# Altium footprint library Leadless Chip Carrier - Square.PcbLib: 18 footprints (part 1 of 2)
Each footprint in its own frame and in the unit in brackets; x right, y up, seen from the top. Pads: shape width x height; smd on the part's side, far side on the other; paste and mask are expansions set on the pad; w line width, h text height; cw(c..) or ccw(c..) is an arc to the next point about the centre after c.
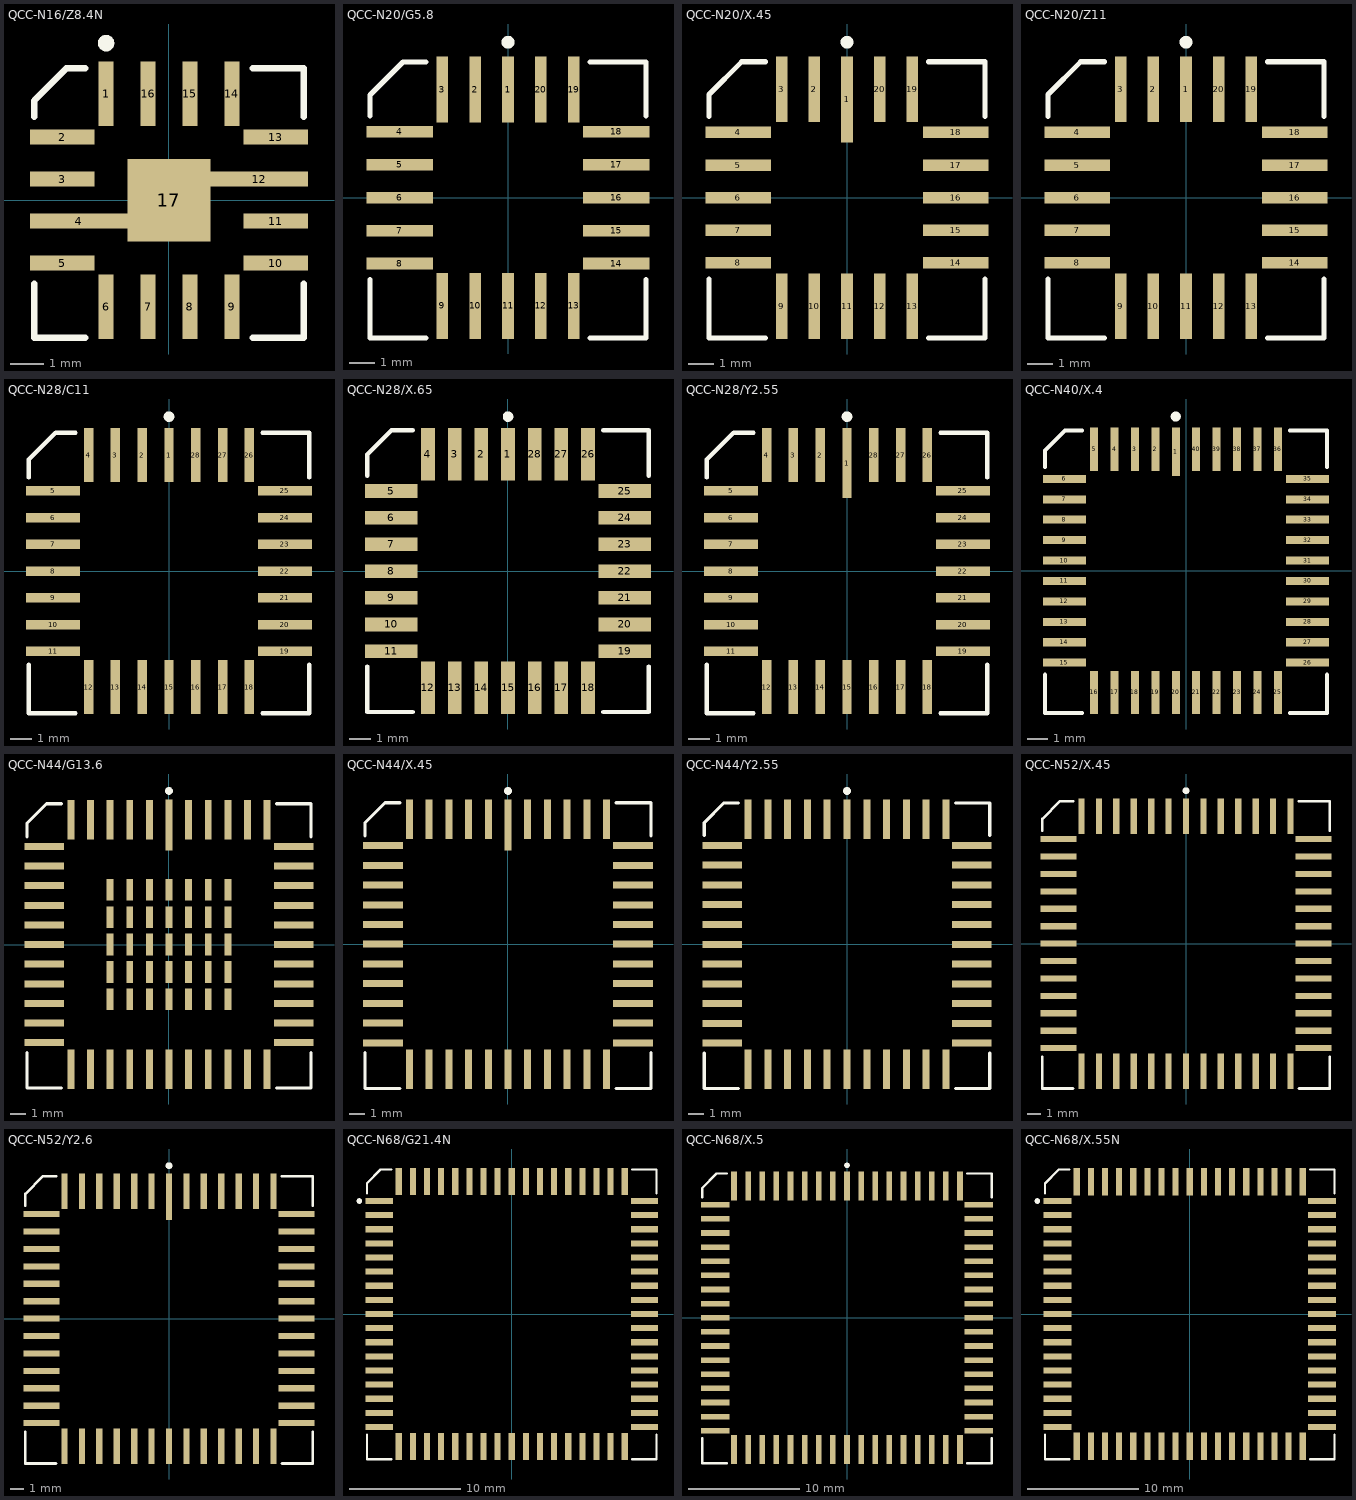
[diagram p0: the footprints below, top view; thin cyan lines are the x and y axes]

## QCC-N16/Z8.4N [mm] "Leadless Chip Carrier; 16 Terminals; Body 6.4 x 6.4 mm"
height 1.91
pads (17):
  rect 0.45x1.95 smd: 1(-1.905,3.225) 6(-1.905,-3.225) 7(-0.635,-3.225) 8(0.635,-3.225) 9(1.905,-3.225) 14(1.905,3.225) 15(0.635,3.225) 16(-0.635,3.225)
  rect 1.95x0.45 smd: 2(-3.225,1.905) 3(-3.225,0.635) 5(-3.225,-1.905) 10(3.225,-1.905) 11(3.225,-0.635) 13(3.225,1.905)
  rect 2.949x0.45 smd: 4(-2.725,-0.635) 12(2.725,0.635)
  rect 2.5x2.5 smd: 17(0,0)
Top Overlay:
  circle w0.25: c-1.905,4.75 r0.125
  lines w0.2: -4.075,-2.53 -4.075,-4.163 -2.53,-4.163 ; -4.075,2.53 -4.075,3.013 -3.1,3.988 -2.53,3.988 ; 2.53,-4.163 4.075,-4.163 4.075,-2.53 ; 2.53,3.988 4.075,3.988 4.075,2.53

## QCC-N20/G5.8 [mm] "Leadless Chip Carrier; 20 Terminals; Body 8.9 x 8.9 mm"
height 2.54
pads (20):
  rect 0.45x2.55 smd: 1(0,4.175) 2(-1.27,4.175) 3(-2.54,4.175) 9(-2.54,-4.175) 10(-1.27,-4.175) 11(0,-4.175) 12(1.27,-4.175) 13(2.54,-4.175) 19(2.54,4.175) 20(1.27,4.175)
  rect 2.55x0.45 smd: 4(-4.175,2.54) 5(-4.175,1.27) 6(-4.175,0) 7(-4.175,-1.27) 8(-4.175,-2.54) 14(4.175,-2.54) 15(4.175,-1.27) 16(4.175,0) 17(4.175,1.27) 18(4.175,2.54)
Top Overlay:
  circle w0.25: c0,6 r0.125
  lines w0.2: -5.325,-3.165 -5.325,-5.413 -3.165,-5.413 ; -5.325,3.165 -5.325,3.962 -4.05,5.238 -3.165,5.238 ; 3.165,-5.413 5.325,-5.413 5.325,-3.165 ; 3.165,5.238 5.325,5.238 5.325,3.165

## QCC-N20/X.45 [mm] "Leadless Chip Carrier; 20 Terminals; Body 8.9 x 8.9 mm"
height 2.54
pads (20):
  rect 0.45x3.35 smd: 1(0,3.825)
  rect 0.45x2.55 smd: 2(-1.27,4.225) 3(-2.54,4.225) 9(-2.54,-4.225) 10(-1.27,-4.225) 11(0,-4.225) 12(1.27,-4.225) 13(2.54,-4.225) 19(2.54,4.225) 20(1.27,4.225)
  rect 2.55x0.45 smd: 4(-4.225,2.54) 5(-4.225,1.27) 6(-4.225,0) 7(-4.225,-1.27) 8(-4.225,-2.54) 14(4.225,-2.54) 15(4.225,-1.27) 16(4.225,0) 17(4.225,1.27) 18(4.225,2.54)
Top Overlay:
  circle w0.25: c0,6.05 r0.125
  lines w0.2: -5.375,-3.165 -5.375,-5.463 -3.165,-5.463 ; -5.375,3.165 -5.375,4.012 -4.1,5.288 -3.165,5.288 ; 3.165,-5.463 5.375,-5.463 5.375,-3.165 ; 3.165,5.288 5.375,5.288 5.375,3.165

## QCC-N20/Z11 [mm] "Leadless Chip Carrier; 20 Terminals; Body 8.9 x 8.9 mm"
height 2.03
pads (20):
  rect 0.45x2.55 smd: 1(0,4.225) 2(-1.27,4.225) 3(-2.54,4.225) 9(-2.54,-4.225) 10(-1.27,-4.225) 11(0,-4.225) 12(1.27,-4.225) 13(2.54,-4.225) 19(2.54,4.225) 20(1.27,4.225)
  rect 2.55x0.45 smd: 4(-4.225,2.54) 5(-4.225,1.27) 6(-4.225,0) 7(-4.225,-1.27) 8(-4.225,-2.54) 14(4.225,-2.54) 15(4.225,-1.27) 16(4.225,0) 17(4.225,1.27) 18(4.225,2.54)
Top Overlay:
  circle w0.25: c0,6.05 r0.125
  lines w0.2: -5.375,-3.165 -5.375,-5.463 -3.165,-5.463 ; -5.375,3.165 -5.375,4.012 -4.1,5.288 -3.165,5.288 ; 3.165,-5.463 5.375,-5.463 5.375,-3.165 ; 3.165,5.288 5.375,5.288 5.375,3.165

## QCC-N28/C11 [mm] "Leadless Chip Carrier; 28 Terminals; Body 11.4 x 11.4 mm"
height 1.99
pads (28):
  rect 0.45x2.55 smd: 1(0,5.5) 2(-1.27,5.5) 3(-2.54,5.5) 4(-3.81,5.5) 12(-3.81,-5.5) 13(-2.54,-5.5) 14(-1.27,-5.5) 15(0,-5.5) 16(1.27,-5.5) 17(2.54,-5.5) 18(3.81,-5.5) 26(3.81,5.5) 27(2.54,5.5) 28(1.27,5.5)
  rect 2.55x0.45 smd: 5(-5.5,3.81) 6(-5.5,2.54) 7(-5.5,1.27) 8(-5.5,0) 9(-5.5,-1.27) 10(-5.5,-2.54) 11(-5.5,-3.81) 19(5.5,-3.81) 20(5.5,-2.54) 21(5.5,-1.27) 22(5.5,0) 23(5.5,1.27) 24(5.5,2.54) 25(5.5,3.81)
Top Overlay:
  circle w0.25: c0,7.325 r0.125
  lines w0.2: -6.65,-4.435 -6.65,-6.737 -4.435,-6.737 ; -6.65,4.435 -6.65,5.288 -5.375,6.563 -4.435,6.562 ; 4.435,-6.737 6.65,-6.737 6.65,-4.435 ; 4.435,6.562 6.65,6.562 6.65,4.435

## QCC-N28/X.65 [mm] "Leadless Chip Carrier; 28 Terminals; Body 11.4 x 11.4 mm"
height 2.42
pads (28):
  rect 0.65x2.5 smd: 1(0,5.55) 2(-1.27,5.55) 3(-2.54,5.55) 4(-3.81,5.55) 12(-3.81,-5.55) 13(-2.54,-5.55) 14(-1.27,-5.55) 15(0,-5.55) 16(1.27,-5.55) 17(2.54,-5.55) 18(3.81,-5.55) 26(3.81,5.55) 27(2.54,5.55) 28(1.27,5.55)
  rect 2.5x0.65 smd: 5(-5.55,3.81) 6(-5.55,2.54) 7(-5.55,1.27) 8(-5.55,0) 9(-5.55,-1.27) 10(-5.55,-2.54) 11(-5.55,-3.81) 19(5.55,-3.81) 20(5.55,-2.54) 21(5.55,-1.27) 22(5.55,0) 23(5.55,1.27) 24(5.55,2.54) 25(5.55,3.81)
Top Overlay:
  circle w0.25: c0,7.35 r0.125
  lines w0.2: -6.7,-4.535 -6.7,-6.7 -4.535,-6.7 ; -6.7,4.535 -6.7,5.55 -5.55,6.7 ; -5.485,6.7 -4.535,6.7 ; 4.535,-6.7 6.7,-6.7 6.7,-4.535 ; 4.535,6.7 6.7,6.7 6.7,4.535

## QCC-N28/Y2.55 [mm] "Leadless Chip Carrier; 28 Terminals; Body 11.4 x 11.4 mm"
height 2.54
pads (28):
  rect 0.45x3.3 smd: 1(0,5.125)
  rect 0.45x2.55 smd: 2(-1.27,5.5) 3(-2.54,5.5) 4(-3.81,5.5) 12(-3.81,-5.5) 13(-2.54,-5.5) 14(-1.27,-5.5) 15(0,-5.5) 16(1.27,-5.5) 17(2.54,-5.5) 18(3.81,-5.5) 26(3.81,5.5) 27(2.54,5.5) 28(1.27,5.5)
  rect 2.55x0.45 smd: 5(-5.5,3.81) 6(-5.5,2.54) 7(-5.5,1.27) 8(-5.5,0) 9(-5.5,-1.27) 10(-5.5,-2.54) 11(-5.5,-3.81) 19(5.5,-3.81) 20(5.5,-2.54) 21(5.5,-1.27) 22(5.5,0) 23(5.5,1.27) 24(5.5,2.54) 25(5.5,3.81)
Top Overlay:
  circle w0.25: c0,7.325 r0.125
  lines w0.2: -6.65,-4.435 -6.65,-6.737 -4.435,-6.737 ; -6.65,4.435 -6.65,5.288 -5.375,6.563 -4.435,6.562 ; 4.435,-6.737 6.65,-6.737 6.65,-4.435 ; 4.435,6.562 6.65,6.562 6.65,4.435

## QCC-N40/X.4 [mm] "Leadless Chip Carrier; 40 Terminals; Body 12.3 x 12.3 mm; Pitch 1.016 mm"
height 2.08
pads (40):
  rect 0.4x2.4 smd: 1(-0.508,5.925)
  rect 0.4x2.15 smd: 2(-1.524,6.05) 3(-2.54,6.05) 4(-3.556,6.05) 5(-4.572,6.05) 16(-4.572,-6.05) 17(-3.556,-6.05) 18(-2.54,-6.05) 19(-1.524,-6.05) 20(-0.508,-6.05) 21(0.508,-6.05) 22(1.524,-6.05) 23(2.54,-6.05) 24(3.556,-6.05) 25(4.572,-6.05) 36(4.572,6.05) 37(3.556,6.05) 38(2.54,6.05) 39(1.524,6.05) 40(0.508,6.05)
  rect 2.15x0.4 smd: 6(-6.05,4.572) 7(-6.05,3.556) 8(-6.05,2.54) 9(-6.05,1.524) 10(-6.05,0.508) 11(-6.05,-0.508) 12(-6.05,-1.524) 13(-6.05,-2.54) 14(-6.05,-3.556) 15(-6.05,-4.572) 26(6.05,-4.572) 27(6.05,-3.556) 28(6.05,-2.54) 29(6.05,-1.524) 30(6.05,-0.508) 31(6.05,0.508) 32(6.05,1.524) 33(6.05,2.54) 34(6.05,3.556) 35(6.05,4.572)
Top Overlay:
  circle w0.25: c-0.51,7.675 r0.125
  lines w0.2: -7.025,-5.172 -7.025,-7.075 -5.172,-7.075 ; -7.025,5.172 -7.025,5.975 -6.025,6.975 -5.172,6.975 ; 5.172,-7.075 7.025,-7.075 7.025,-5.172 ; 5.172,6.975 7.025,6.975 7.025,5.172

## QCC-N44/G13.6 [mm] "Leadless Chip Carrier; 44 Terminals; Body 16.5 x 16.5 mm"
height 3.05
pads (79):
  rect 0.45x3.3 smd: 1(0,7.745)
  rect 0.45x2.55 smd: 2(-1.27,8.075) 3(-2.54,8.075) 4(-3.81,8.075) 5(-5.08,8.075) 6(-6.35,8.075) 18(-6.35,-8.075) 19(-5.08,-8.075) 20(-3.81,-8.075) 21(-2.54,-8.075) 22(-1.27,-8.075) 23(0,-8.075) 24(1.27,-8.075) 25(2.54,-8.075) 26(3.81,-8.075) 27(5.08,-8.075) 28(6.35,-8.075) 40(6.35,8.075) 41(5.08,8.075) 42(3.81,8.075) 43(2.54,8.075) 44(1.27,8.075)
  rect 2.55x0.45 smd: 7(-8.075,6.35) 8(-8.075,5.08) 9(-8.075,3.81) 10(-8.075,2.54) 11(-8.075,1.27) 12(-8.075,0) 13(-8.075,-1.27) 14(-8.075,-2.54) 15(-8.075,-3.81) 16(-8.075,-5.08) 17(-8.075,-6.35) 29(8.075,-6.35) 30(8.075,-5.08) 31(8.075,-3.81) 32(8.075,-2.54) 33(8.075,-1.27) 34(8.075,0) 35(8.075,1.27) 36(8.075,2.54) 37(8.075,3.81) 38(8.075,5.08) 39(8.075,6.35)
  rect 0.45x1.4 smd: 45(-3.81,3.55) 46(-2.54,3.55) 47(-1.27,3.55) 48(0,3.55) 49(1.27,3.55) 50(2.54,3.55) 51(3.81,3.55) 52(-3.81,1.775) 53(-2.54,1.775) 54(-1.27,1.775) 55(0,1.775) 56(1.27,1.775) 57(2.54,1.775) 58(3.81,1.775) 59(-3.81,0) 60(-2.54,0) 61(-1.27,0) 62(0,0) 63(1.27,0) 64(2.54,0) 65(3.81,0) 66(-3.81,-1.775) 67(-2.54,-1.775) 68(-1.27,-1.775) 69(0,-1.775) 70(1.27,-1.775) 71(2.54,-1.775) 72(3.81,-1.775) 73(-3.81,-3.55) 74(-2.54,-3.55) 75(-1.27,-3.55) 76(0,-3.55) 77(1.27,-3.55) 78(2.54,-3.55) 79(3.81,-3.55)
Top Overlay:
  circle w0.25: c0,9.945 r0.125
  lines w0.2: -9.2,-6.975 -9.2,-9.287 -6.975,-9.287 ; -9.2,6.975 -9.2,7.838 -7.925,9.113 -6.975,9.112 ; 6.975,-9.287 9.2,-9.287 9.2,-6.975 ; 6.975,9.112 9.2,9.112 9.2,6.975

## QCC-N44/X.45 [mm] "Leadless Chip Carrier; 44 Terminals; Body 16.6 x 16.6 mm"
height 3.05
pads (44):
  rect 0.45x3.3 smd: 1(0,7.675)
  rect 0.45x2.55 smd: 2(-1.27,8.05) 3(-2.54,8.05) 4(-3.81,8.05) 5(-5.08,8.05) 6(-6.35,8.05) 18(-6.35,-8.05) 19(-5.08,-8.05) 20(-3.81,-8.05) 21(-2.54,-8.05) 22(-1.27,-8.05) 23(0,-8.05) 24(1.27,-8.05) 25(2.54,-8.05) 26(3.81,-8.05) 27(5.08,-8.05) 28(6.35,-8.05) 40(6.35,8.05) 41(5.08,8.05) 42(3.81,8.05) 43(2.54,8.05) 44(1.27,8.05)
  rect 2.55x0.45 smd: 7(-8.05,6.35) 8(-8.05,5.08) 9(-8.05,3.81) 10(-8.05,2.54) 11(-8.05,1.27) 12(-8.05,0) 13(-8.05,-1.27) 14(-8.05,-2.54) 15(-8.05,-3.81) 16(-8.05,-5.08) 17(-8.05,-6.35) 29(8.05,-6.35) 30(8.05,-5.08) 31(8.05,-3.81) 32(8.05,-2.54) 33(8.05,-1.27) 34(8.05,0) 35(8.05,1.27) 36(8.05,2.54) 37(8.05,3.81) 38(8.05,5.08) 39(8.05,6.35)
Top Overlay:
  circle w0.25: c0,9.875 r0.125
  lines w0.2: -9.2,-6.975 -9.2,-9.287 -6.975,-9.287 ; -9.2,6.975 -9.2,7.838 -7.925,9.113 -6.975,9.112 ; 6.975,-9.287 9.2,-9.287 9.2,-6.975 ; 6.975,9.112 9.2,9.112 9.2,6.975

## QCC-N44/Y2.55 [mm] "Leadless Chip Carrier; 44 Terminals; Body 16.5 x 16.5 mm"
height 2.03
pads (44):
  rect 0.45x2.55 smd: 1(0,8.025) 2(-1.27,8.025) 3(-2.54,8.025) 4(-3.81,8.025) 5(-5.08,8.025) 6(-6.35,8.025) 18(-6.35,-8.025) 19(-5.08,-8.025) 20(-3.81,-8.025) 21(-2.54,-8.025) 22(-1.27,-8.025) 23(0,-8.025) 24(1.27,-8.025) 25(2.54,-8.025) 26(3.81,-8.025) 27(5.08,-8.025) 28(6.35,-8.025) 40(6.35,8.025) 41(5.08,8.025) 42(3.81,8.025) 43(2.54,8.025) 44(1.27,8.025)
  rect 2.55x0.45 smd: 7(-8.025,6.35) 8(-8.025,5.08) 9(-8.025,3.81) 10(-8.025,2.54) 11(-8.025,1.27) 12(-8.025,0) 13(-8.025,-1.27) 14(-8.025,-2.54) 15(-8.025,-3.81) 16(-8.025,-5.08) 17(-8.025,-6.35) 29(8.025,-6.35) 30(8.025,-5.08) 31(8.025,-3.81) 32(8.025,-2.54) 33(8.025,-1.27) 34(8.025,0) 35(8.025,1.27) 36(8.025,2.54) 37(8.025,3.81) 38(8.025,5.08) 39(8.025,6.35)
Top Overlay:
  circle w0.25: c0,9.85 r0.125
  lines w0.2: -9.175,-6.975 -9.175,-9.263 -6.975,-9.263 ; -9.175,6.975 -9.175,7.812 -7.9,9.088 -6.975,9.088 ; 6.975,-9.263 9.175,-9.263 9.175,-6.975 ; 6.975,9.088 9.175,9.088 9.175,6.975

## QCC-N52/X.45 [mm] "Leadless Chip Carrier; 52 Terminals; Body 19.1 x 19.1 mm"
height 2.54
pads (52):
  rect 0.45x2.6 smd: 1(0,9.3) 2(-1.27,9.3) 3(-2.54,9.3) 4(-3.81,9.3) 5(-5.08,9.3) 6(-6.35,9.3) 7(-7.62,9.3) 21(-7.62,-9.3) 22(-6.35,-9.3) 23(-5.08,-9.3) 24(-3.81,-9.3) 25(-2.54,-9.3) 26(-1.27,-9.3) 27(0,-9.3) 28(1.27,-9.3) 29(2.54,-9.3) 30(3.81,-9.3) 31(5.08,-9.3) 32(6.35,-9.3) 33(7.62,-9.3) 47(7.62,9.3) 48(6.35,9.3) 49(5.08,9.3) 50(3.81,9.3) 51(2.54,9.3) 52(1.27,9.3)
  rect 2.6x0.45 smd: 8(-9.3,7.62) 9(-9.3,6.35) 10(-9.3,5.08) 11(-9.3,3.81) 12(-9.3,2.54) 13(-9.3,1.27) 14(-9.3,0) 15(-9.3,-1.27) 16(-9.3,-2.54) 17(-9.3,-3.81) 18(-9.3,-5.08) 19(-9.3,-6.35) 20(-9.3,-7.62) 34(9.3,-7.62) 35(9.3,-6.35) 36(9.3,-5.08) 37(9.3,-3.81) 38(9.3,-2.54) 39(9.3,-1.27) 40(9.3,0) 41(9.3,1.27) 42(9.3,2.54) 43(9.3,3.81) 44(9.3,5.08) 45(9.3,6.35) 46(9.3,7.62)
Top Overlay:
  circle w0.25: c0,11.15 r0.125
  lines w0.2: -10.475,-8.245 -10.475,-10.563 -8.245,-10.563 ; -10.475,8.245 -10.475,9.088 -9.175,10.388 -8.245,10.388 ; 8.245,-10.563 10.475,-10.563 10.475,-8.245 ; 8.245,10.388 10.475,10.388 10.475,8.245

## QCC-N52/Y2.6 [mm] "Leadless Chip Carrier; 52 Terminals; Body 19.1 x 19.1 mm"
height 3.05
pads (52):
  rect 0.45x3.4 smd: 1(0,8.9)
  rect 0.45x2.6 smd: 2(-1.27,9.3) 3(-2.54,9.3) 4(-3.81,9.3) 5(-5.08,9.3) 6(-6.35,9.3) 7(-7.62,9.3) 21(-7.62,-9.3) 22(-6.35,-9.3) 23(-5.08,-9.3) 24(-3.81,-9.3) 25(-2.54,-9.3) 26(-1.27,-9.3) 27(0,-9.3) 28(1.27,-9.3) 29(2.54,-9.3) 30(3.81,-9.3) 31(5.08,-9.3) 32(6.35,-9.3) 33(7.62,-9.3) 47(7.62,9.3) 48(6.35,9.3) 49(5.08,9.3) 50(3.81,9.3) 51(2.54,9.3) 52(1.27,9.3)
  rect 2.6x0.45 smd: 8(-9.3,7.62) 9(-9.3,6.35) 10(-9.3,5.08) 11(-9.3,3.81) 12(-9.3,2.54) 13(-9.3,1.27) 14(-9.3,0) 15(-9.3,-1.27) 16(-9.3,-2.54) 17(-9.3,-3.81) 18(-9.3,-5.08) 19(-9.3,-6.35) 20(-9.3,-7.62) 34(9.3,-7.62) 35(9.3,-6.35) 36(9.3,-5.08) 37(9.3,-3.81) 38(9.3,-2.54) 39(9.3,-1.27) 40(9.3,0) 41(9.3,1.27) 42(9.3,2.54) 43(9.3,3.81) 44(9.3,5.08) 45(9.3,6.35) 46(9.3,7.62)
Top Overlay:
  circle w0.25: c0,11.15 r0.125
  lines w0.2: -10.475,-8.245 -10.475,-10.563 -8.245,-10.563 ; -10.475,8.245 -10.475,9.088 -9.175,10.388 -8.245,10.388 ; 8.245,-10.563 10.475,-10.563 10.475,-8.245 ; 8.245,10.388 10.475,10.388 10.475,8.245

## QCC-N68/G21.4N [mm] "Leadless Chip Carrier; 68 Terminals; Body 24.3 x 24.3 mm"
height 2.39
pads (68):
  rect 2.45x0.55 smd: 1(-11.925,10.16) 2(-11.925,8.89) 3(-11.925,7.62) 4(-11.925,6.35) 5(-11.925,5.08) 6(-11.925,3.81) 7(-11.925,2.54) 8(-11.925,1.27) 9(-11.925,0) 10(-11.925,-1.27) 11(-11.925,-2.54) 12(-11.925,-3.81) 13(-11.925,-5.08) 14(-11.925,-6.35) 15(-11.925,-7.62) 16(-11.925,-8.89) 17(-11.925,-10.16) 35(11.925,-10.16) 36(11.925,-8.89) 37(11.925,-7.62) 38(11.925,-6.35) 39(11.925,-5.08) 40(11.925,-3.81) 41(11.925,-2.54) 42(11.925,-1.27) 43(11.925,0) 44(11.925,1.27) 45(11.925,2.54) 46(11.925,3.81) 47(11.925,5.08) 48(11.925,6.35) 49(11.925,7.62) 50(11.925,8.89) 51(11.925,10.16)
  rect 0.55x2.45 smd: 18(-10.16,-11.925) 19(-8.89,-11.925) 20(-7.62,-11.925) 21(-6.35,-11.925) 22(-5.08,-11.925) 23(-3.81,-11.925) 24(-2.54,-11.925) 25(-1.27,-11.925) 26(0,-11.925) 27(1.27,-11.925) 28(2.54,-11.925) 29(3.81,-11.925) 30(5.08,-11.925) 31(6.35,-11.925) 32(7.62,-11.925) 33(8.89,-11.925) 34(10.16,-11.925) 52(10.16,11.925) 53(8.89,11.925) 54(7.62,11.925) 55(6.35,11.925) 56(5.08,11.925) 57(3.81,11.925) 58(2.54,11.925) 59(1.27,11.925) 60(0,11.925) 61(-1.27,11.925) 62(-2.54,11.925) 63(-3.81,11.925) 64(-5.08,11.925) 65(-6.35,11.925) 66(-7.62,11.925) 67(-8.89,11.925) 68(-10.16,11.925)
Top Overlay:
  circle w0.25: c-13.7,10.16 r0.125
  lines w0.2: -13.025,-10.835 -13.025,-13.063 -10.835,-13.063 ; -13.025,10.835 -13.025,11.763 -11.8,12.988 -10.835,12.988 ; 10.835,-13.063 13.025,-13.063 13.025,-10.835 ; 10.835,12.988 13.025,12.988 13.025,10.835

## QCC-N68/X.5 [mm] "Leadless Chip Carrier; 68 Terminals; Body 24.1 x 24.1 mm"
height 2.38
pads (68):
  rect 0.5x2.6 smd: 1(0,11.85) 2(-1.27,11.85) 3(-2.54,11.85) 4(-3.81,11.85) 5(-5.08,11.85) 6(-6.35,11.85) 7(-7.62,11.85) 8(-8.89,11.85) 9(-10.16,11.85) 27(-10.16,-11.85) 28(-8.89,-11.85) 29(-7.62,-11.85) 30(-6.35,-11.85) 31(-5.08,-11.85) 32(-3.81,-11.85) 33(-2.54,-11.85) 34(-1.27,-11.85) 35(0,-11.85) 36(1.27,-11.85) 37(2.54,-11.85) 38(3.81,-11.85) 39(5.08,-11.85) 40(6.35,-11.85) 41(7.62,-11.85) 42(8.89,-11.85) 43(10.16,-11.85) 61(10.16,11.85) 62(8.89,11.85) 63(7.62,11.85) 64(6.35,11.85) 65(5.08,11.85) 66(3.81,11.85) 67(2.54,11.85) 68(1.27,11.85)
  rect 2.6x0.5 smd: 10(-11.85,10.16) 11(-11.85,8.89) 12(-11.85,7.62) 13(-11.85,6.35) 14(-11.85,5.08) 15(-11.85,3.81) 16(-11.85,2.54) 17(-11.85,1.27) 18(-11.85,0) 19(-11.85,-1.27) 20(-11.85,-2.54) 21(-11.85,-3.81) 22(-11.85,-5.08) 23(-11.85,-6.35) 24(-11.85,-7.62) 25(-11.85,-8.89) 26(-11.85,-10.16) 44(11.85,-10.16) 45(11.85,-8.89) 46(11.85,-7.62) 47(11.85,-6.35) 48(11.85,-5.08) 49(11.85,-3.81) 50(11.85,-2.54) 51(11.85,-1.27) 52(11.85,0) 53(11.85,1.27) 54(11.85,2.54) 55(11.85,3.81) 56(11.85,5.08) 57(11.85,6.35) 58(11.85,7.62) 59(11.85,8.89) 60(11.85,10.16)
Top Overlay:
  circle w0.25: c0,13.7 r0.125
  lines w0.2: -13.025,-10.81 -13.025,-13.087 -10.81,-13.087 ; -13.025,10.81 -13.025,11.662 -11.725,12.962 -10.81,12.962 ; 10.81,-13.087 13.025,-13.087 13.025,-10.81 ; 10.81,12.962 13.025,12.962 13.025,10.81

## QCC-N68/X.55N [mm] "Leadless Chip Carrier; 68 Terminals; Body 24.3 x 24.3 mm"
height 2.39
pads (68):
  rect 2.5x0.55 smd: 1(-11.9,10.16) 2(-11.9,8.89) 3(-11.9,7.62) 4(-11.9,6.35) 5(-11.9,5.08) 6(-11.9,3.81) 7(-11.9,2.54) 8(-11.9,1.27) 9(-11.9,0) 10(-11.9,-1.27) 11(-11.9,-2.54) 12(-11.9,-3.81) 13(-11.9,-5.08) 14(-11.9,-6.35) 15(-11.9,-7.62) 16(-11.9,-8.89) 17(-11.9,-10.16) 35(11.9,-10.16) 36(11.9,-8.89) 37(11.9,-7.62) 38(11.9,-6.35) 39(11.9,-5.08) 40(11.9,-3.81) 41(11.9,-2.54) 42(11.9,-1.27) 43(11.9,0) 44(11.9,1.27) 45(11.9,2.54) 46(11.9,3.81) 47(11.9,5.08) 48(11.9,6.35) 49(11.9,7.62) 50(11.9,8.89) 51(11.9,10.16)
  rect 0.55x2.5 smd: 18(-10.16,-11.9) 19(-8.89,-11.9) 20(-7.62,-11.9) 21(-6.35,-11.9) 22(-5.08,-11.9) 23(-3.81,-11.9) 24(-2.54,-11.9) 25(-1.27,-11.9) 26(0,-11.9) 27(1.27,-11.9) 28(2.54,-11.9) 29(3.81,-11.9) 30(5.08,-11.9) 31(6.35,-11.9) 32(7.62,-11.9) 33(8.89,-11.9) 34(10.16,-11.9) 52(10.16,11.9) 53(8.89,11.9) 54(7.62,11.9) 55(6.35,11.9) 56(5.08,11.9) 57(3.81,11.9) 58(2.54,11.9) 59(1.27,11.9) 60(0,11.9) 61(-1.27,11.9) 62(-2.54,11.9) 63(-3.81,11.9) 64(-5.08,11.9) 65(-6.35,11.9) 66(-7.62,11.9) 67(-8.89,11.9) 68(-10.16,11.9)
Top Overlay:
  circle w0.25: c-13.7,10.16 r0.125
  lines w0.2: -13.025,-10.835 -13.025,-13.063 -10.835,-13.063 ; -13.025,10.835 -13.025,11.738 -11.775,12.988 -10.835,12.988 ; 10.835,-13.063 13.025,-13.063 13.025,-10.835 ; 10.835,12.988 13.025,12.988 13.025,10.835